# Altium schematic symbol library RS-485-422.SchLib: 2 symbols
Pins are listed as number, name and electrical type; pins without a type are passive.

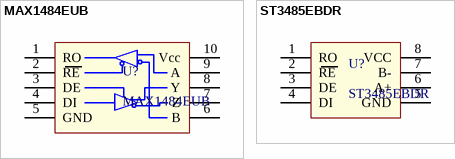
[diagram p0: symbols MAX1484EUB to ST3485EBDR]

## MAX1484EUB
designator U?
Software-Selectable, Half-/Full-Duplex, Slew-Rate-Limited,  12Mbps, RS-485/RS-422 Transceivers in µMAX Package; Supplier 1: Digi-Key; Supplier Part Number 1: 497-2080-1-ND
footprint LC-TSSOP-10
pins: 1 RO, 2 RE, 3 DE, 4 DI, 5 GND, 6 B, 7 Z, 8 Y, 9 A, 10 Vcc

## ST3485EBDR
designator U?
3.3 V powered, 15 kV ESD protected, up to 12 Mbps RS - 485/422 transceiver; Supplier 1: Digi-Key; Supplier Part Number 1: 497-2080-1-ND
footprint LC-SOIC-8_150mil
pins: 1 RO, 2 RE, 3 DE, 4 DI, 5 GND, 6 A+, 7 B-, 8 VCC